# EAGLE library part 649024227222 (library Wire-to-Board)
WR-MPC4-4.20mm Male Dual Row Angled Header with Mounting Pegs,24 pins=>Code : Con_WTB_MPC4_2_PCB_649024227222 <http://katalog.we-online.de/media/thumbs2/eican/thb_Con_WTB_MPC4_2_PCB_6490xx227222_pf2.jpg> Details see: http://katalog.we-online.de/en/em/649_0xx_227_222 Created 2014-06-06, Karrer Zheng 2014 (C) Würth Elektronik
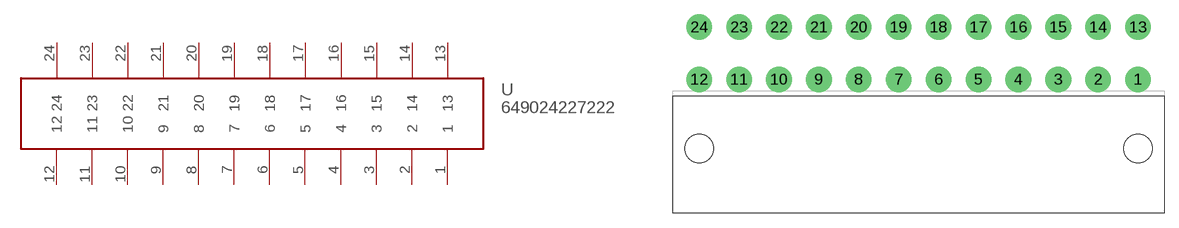
[diagram p323: symbol with the pads of 649024227222; footprint 649024227222]

Designator prefix -

## 649024227222  [649024227222]
1  1
2  2
3  3
4  4
5  5
6  6
7  7
8  8
9  9
10  10
11  11
12  12
13  13
14  14
15  15
16  16
17  17
18  18
19  19
20  20
21  21
22  22
23  23
24  24

## Footprint 649024227222 (pad centres in mm)
WR-MPC4-4.20mm Male Dual Row Angled Header with Mounting Pegs,24 pins
drill 1.8: 1 23.425,-2.75; 2 19.225,-2.75; 3 15.025,-2.75; 4 10.825,-2.75; 5 6.625,-2.75; 6 2.425,-2.75; 7 -1.775,-2.75; 8 -5.975,-2.75; 9 -10.175,-2.75; 10 -14.375,-2.75; 11 -18.575,-2.75; 12 -22.775,-2.75; 13 23.425,2.75; 14 19.225,2.75; 15 15.025,2.75; 16 10.825,2.75; 17 6.625,2.75; 18 2.425,2.75; 19 -1.775,2.75; 20 -5.975,2.75; 21 -10.175,2.75; 22 -14.375,2.75; 23 -18.575,2.75; 24 -22.775,2.75
hole 3 at -22.775,-10.05
hole 3 at 23.425,-10.05